# Altium schematic symbol library OPL_Relay.SCHLIB: 2 symbols
Pins are listed as number, name and electrical type; pins without a type are passive.

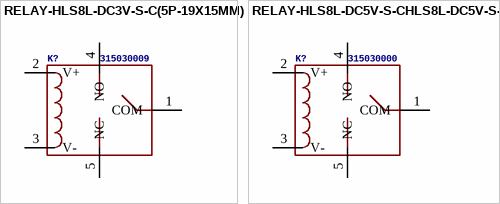
[diagram p0: symbols RELAY-HLS8L-DC3V-S-C(5P-19X15MM) to RELAY-HLS8L-DC5V-S-CHLS8L-DC5V-S-C]

## RELAY-HLS8L-DC3V-S-C(5P-19X15MM)
designator K?, comment 315030009
MPN: HLS8L-DC3V-S-C
footprint REY5-19.0X15.0X15.0MM
pins: 1 COM, 2 V+, 3 V-, 4 NO, 5 NC

## RELAY-HLS8L-DC5V-S-CHLS8L-DC5V-S-C
designator K?, comment 315030000
footprint REY5-19.0X15.0X15.0MM
pins: 1 COM, 2 V+, 3 V-, 4 NO, 5 NC